# EAGLE library part CHARGEPORT (library dslparts)
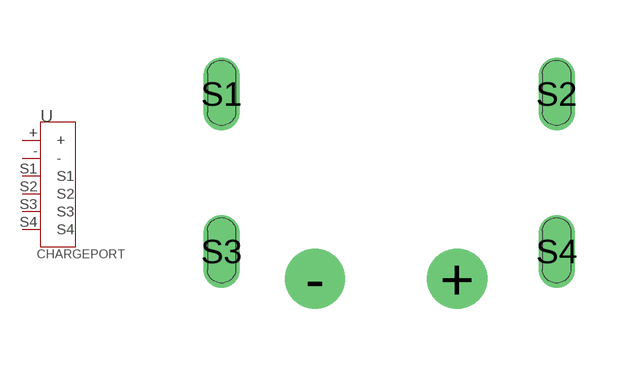
[diagram p3: symbol with the pads of CHARGEPORT; footprint CHARGEPORT]

Designator prefix -

## CHARGEPORT  [CHARGEPORT]
+  +
-  -
S1  S1
S2  S2
S3  S3
S4  S4

## Footprint CHARGEPORT (pad centres in mm)
drill 1: + 1.651,-3.124; - -1.905,-3.124
drill 0.4 long: S1 -4.237,1.497; S2 4.145,1.497; S3 -4.237,-2.44; S4 4.145,-2.44